# Altium schematic symbol library SRP1770TA-560M.SchLib: 1 symbol
Pins are listed as number, name and electrical type; pins without a type are passive.

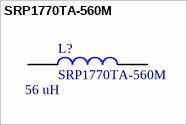
[diagram p0: symbol SRP1770TA-560M]

## SRP1770TA-560M
designator L?  Indutancia: 56 uH
Shielded Power Inductor SMD 56uH Bourns SRP1770TA Series Shielded Wire-wound SMD Inductor with a Carbonyl Powder Core, 56 H Wire-Wound 7.8A Idc Q:20; Geometry.Height: 7mm; Manufacturer_Part_Number: SRP1770TA-560M; RS Part Number: 9054781; RS Price/Stock: http://uk.rs-online.com/web/p/products/9054781; Arrow Part Number: SRP1770TA-560M; Arrow Price/Stock: https://www.arrow.com/en/products/srp1770ta-560m/bourns; Datasheet Link: http://docs-europe.electrocomponents.com/webdocs/1465/0900766b81465c8d.pdf; Manufacturer_Name: Bourns
footprint INDPM173169X700N
pins: 1, 2